# Altium footprint library WR-TBL_Spring Clamp_2.50mm.PcbLib: 2 footprints
Each footprint in its own frame and in the unit in brackets; x right, y up, seen from the top. Pads: shape width x height; smd on the part's side, far side on the other; paste and mask are expansions set on the pad; w line width, h text height; cw(c..) or ccw(c..) is an arc to the next point about the centre after c.
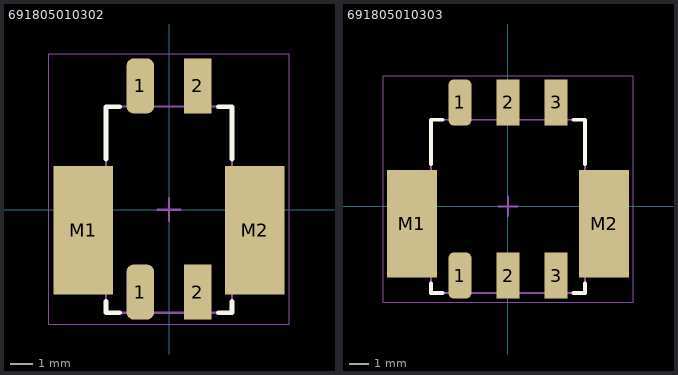
[diagram p0: the footprints below, top view; thin cyan lines are the x and y axes]

## 691805010302 [mm] "2.50mm Screwless SMT, 2p"
height 5
pads (6):
  rrect50% 1.2x2.4 smd: 1(-1.25,-3.6) 1(-1.25,5.4)
  rect 1.2x2.4 smd: 2(1.25,-3.6) 2(1.25,5.4)
  rect 2.6x5.6 smd: M1(-3.75,-0.9) M2(3.75,-0.9)
Top Overlay:
  lines w0.2: -2.75,-4 -2.75,-4.5 -2.15,-4.5 ; -2.75,2.2 -2.75,4.5 -2.15,4.5 ; 2.15,-4.5 2.75,-4.5 2.75,-4 ; 2.15,4.5 2.75,4.5 2.75,2.2
Top Assembly:
  lines w0.1: -2.75,-3.06 -3.39,-3.06 -3.39,-3.48 -4.7,-3.48 -4.7,-1.78 -4.11,-1.78 -4.11,-0.03 -4.7,-0.03 -4.7,1.67 -3.39,1.67 -3.39,1.25 -2.75,1.25 ; -1.65,4.5 -1.65,6.5 -0.85,6.5 -0.85,4.5 ; 0.85,4.5 0.85,6.5 1.65,6.5 1.65,4.5 ; 2.75,-3.06 3.39,-3.06 3.39,-3.48 4.7,-3.48 4.7,-1.78 4.11,-1.78 4.11,-0.03 4.7,-0.03 4.7,1.67 3.39,1.67 3.39,1.25 2.75,1.25 ; -2.75,-4.5 2.75,-4.5 2.75,4.5 -2.75,4.5 -2.75,-4.5
Top Designator:
  text ".Designator" at -3.647,-0.357 h1
Top 3D Body:
  lines w0.1: -2.75,-3.06 -3.39,-3.06 -3.39,-3.48 -4.7,-3.48 -4.7,-1.78 -4.11,-1.78 -4.11,-0.03 -4.7,-0.03 -4.7,1.67 -3.39,1.67 -3.39,1.25 -2.75,1.25 ; -1.65,4.5 -1.65,6.5 -0.85,6.5 -0.85,4.5 ; 0.85,4.5 0.85,6.5 1.65,6.5 1.65,4.5 ; 2.75,-3.06 3.39,-3.06 3.39,-3.48 4.7,-3.48 4.7,-1.78 4.11,-1.78 4.11,-0.03 4.7,-0.03 4.7,1.67 3.39,1.67 3.39,1.25 2.75,1.25 ; -2.75,-4.5 -2.75,4.5 2.75,4.5 2.75,-4.5 -2.75,-4.5
Top Courtyard:
  lines w0.05: -5.25,-5 5.25,-5 5.25,6.8 -5.25,6.8 -5.25,-5
Top Component Center:
  lines w0.1: -0.5,0 0.5,0 ; 0,-0.5 0,0.5
3D body "691805010302.stp": height 5.1, standoff 0, extent -4.7,-4.5 4.7,6.5

## 691805010303 [mm] "2.50mm Screwless SMT, 3p"
height 5
pads (8):
  rrect50% 1.2x2.4 smd: 1(-2.5,-3.6) 1(-2.5,5.4)
  rect 1.2x2.4 smd: 2(0,-3.6) 2(0,5.4) 3(2.5,-3.6) 3(2.5,5.4)
  rect 2.6x5.6 smd: M1(-5,-0.9) M2(5,-0.9)
Top Overlay:
  lines w0.2: -4,-4 -4,-4.5 -3.4,-4.5 ; -4,2.2 -4,4.5 -3.4,4.5 ; 3.4,-4.5 4,-4.5 4,-4 ; 3.4,4.5 4,4.5 4,2.2
Top Assembly:
  lines w0.1: -4,-3.06 -4.64,-3.06 -4.64,-3.48 -5.95,-3.48 -5.95,-1.78 -5.36,-1.78 -5.36,-0.03 -5.95,-0.03 -5.95,1.67 -4.64,1.67 -4.64,1.25 -4,1.25 ; -2.9,4.5 -2.9,6.5 -2.1,6.5 -2.1,4.5 ; -0.4,4.5 -0.4,6.5 0.4,6.5 0.4,4.5 ; 2.1,4.5 2.1,6.5 2.9,6.5 2.9,4.5 ; 4,-3.06 4.64,-3.06 4.64,-3.48 5.95,-3.48 5.95,-1.78 5.36,-1.78 5.36,-0.03 5.95,-0.03 5.95,1.67 4.64,1.67 4.64,1.25 4,1.25 ; -4,-4.5 -4,4.5 4,4.5 4,-4.5 -4,-4.5
Top Designator:
  text ".Designator" at -3.647,-0.357 h1
Top 3D Body:
  lines w0.1: -4,-3.06 -4.64,-3.06 -4.64,-3.48 -5.95,-3.48 -5.95,-1.78 -5.36,-1.78 -5.36,-0.03 -5.95,-0.03 -5.95,1.67 -4.64,1.67 -4.64,1.25 -4,1.25 ; -2.9,4.5 -2.9,6.5 -2.1,6.5 -2.1,4.5 ; -0.4,4.5 -0.4,6.5 0.4,6.5 0.4,4.5 ; 2.1,4.5 2.1,6.5 2.9,6.5 2.9,4.5 ; 4,-3.06 4.64,-3.06 4.64,-3.48 5.95,-3.48 5.95,-1.78 5.36,-1.78 5.36,-0.03 5.95,-0.03 5.95,1.67 4.64,1.67 4.64,1.25 4,1.25 ; -4,-4.5 4,-4.5 4,4.5 -4,4.5 -4,-4.5
Top Courtyard:
  lines w0.05: -6.5,-5 -6.5,6.8 6.5,6.8 6.5,-5 -6.5,-5
Top Component Center:
  lines w0.1: -0.5,0 0.5,0 ; 0,-0.5 0,0.5
3D body "691805010303 (rev1).stp": height 5.1, standoff 0, extent -5.95,-4.5 5.95,6.5